# Altium footprint library VL820.PcbLib: 42 footprints (part 1 of 3)
Each footprint in its own frame and in the unit in brackets; x right, y up, seen from the top. Pads: shape width x height; smd on the part's side, far side on the other; paste and mask are expansions set on the pad; w line width, h text height; cw(c..) or ccw(c..) is an arc to the next point about the centre after c.
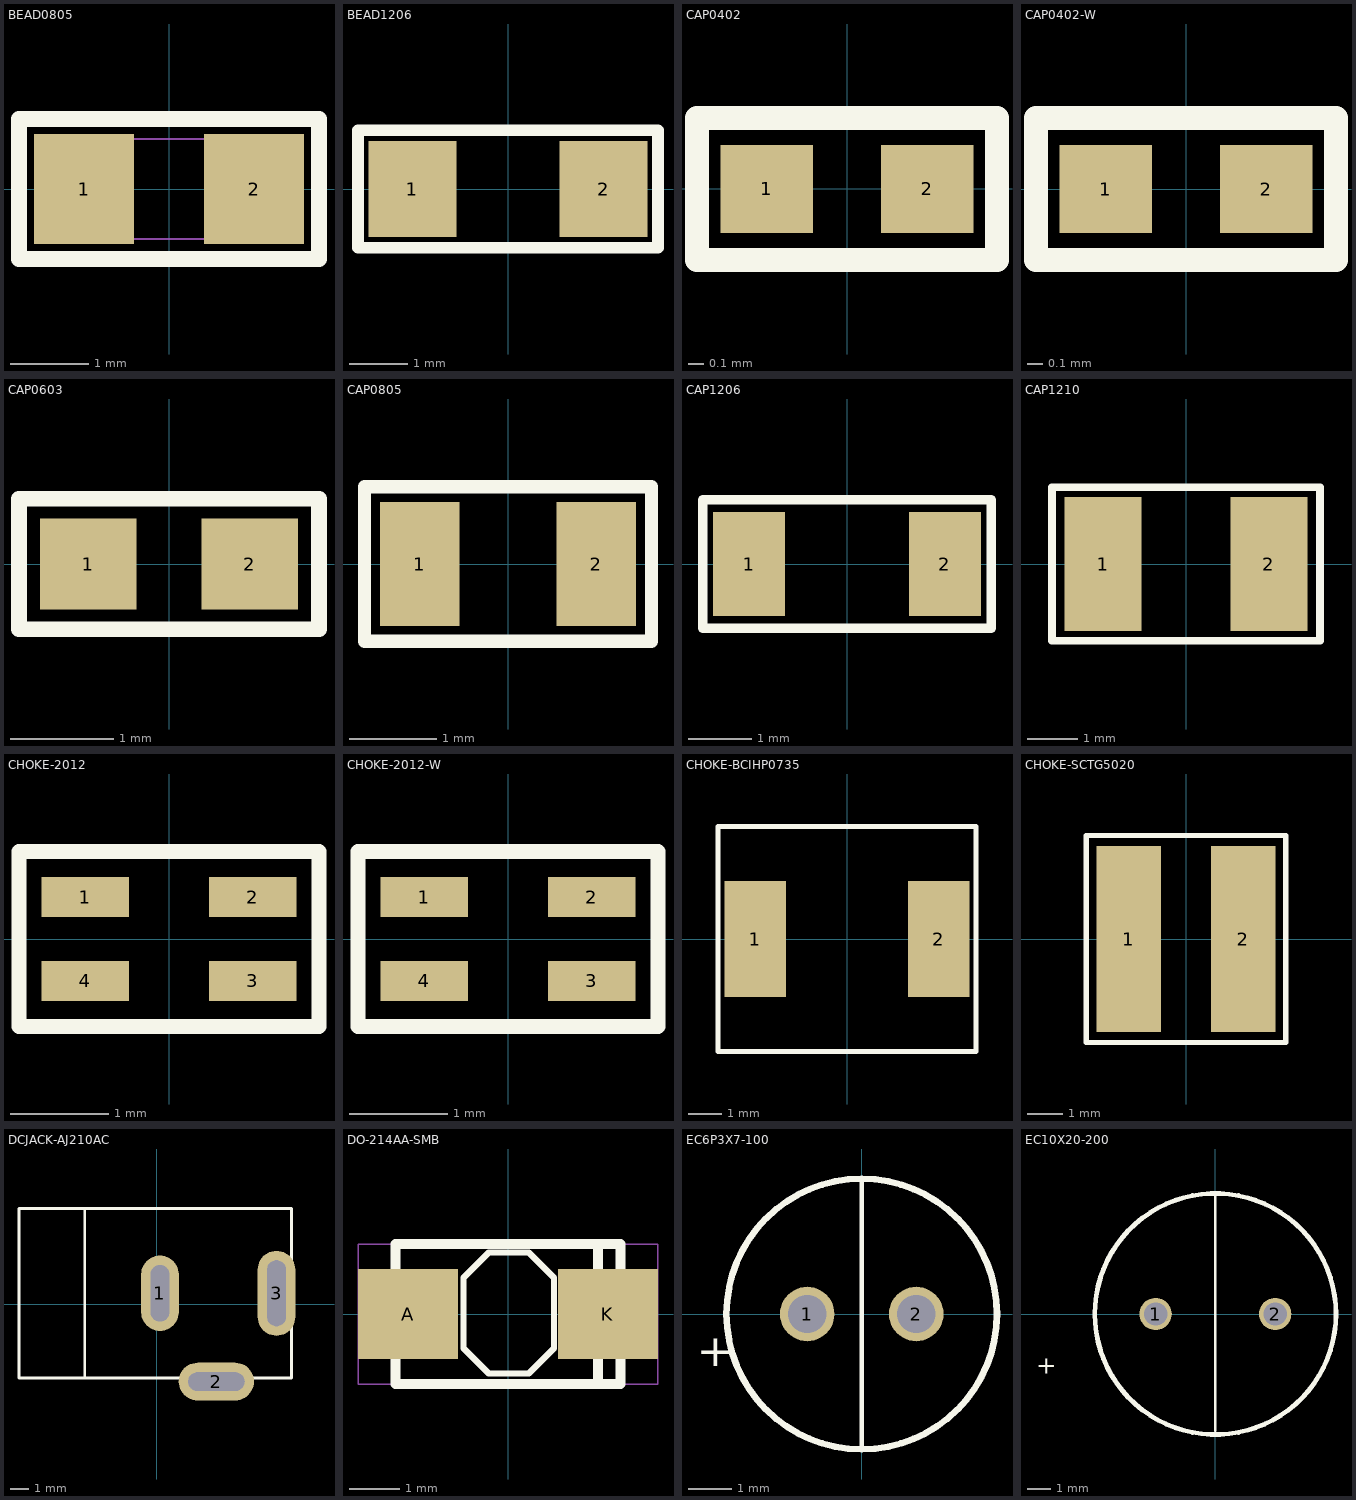
[diagram p0: the footprints below, top view; thin cyan lines are the x and y axes]

## BEAD0805 [mil] "BEAD0805"
pads (2):
  rect 50x55 smd: 1(-42.5,0) 2(42.5,0)
Top Overlay:
  lines w8: -75,-35 -75,35 -35,35 75,35 75,-35 -75,-35
Mechanical 8:
  lines w1: -40,-25 40,-25 40,25 -40,25 -40,-25
Mechanical 14:
  text "1" at -42.5,-4 h10
  text "2" at 42.5,-4 h10
Mechanical 16:
  lines w1: -75,-35 -75,35 75,35 75,-35 -75,-35
3D body "0805 SMD Capacitor.step": height 30.79, standoff 0, extent -39.01,-25.08 39.73,24.14

## BEAD1206 [mil] "BEAD1206"
pads (2):
  rect 60x65 smd: 1(-65,0) 2(65,0)
Top Overlay:
  lines w8: -102,-40 -102,40 -65,40 102,40 102,-40 -102,-40
Mechanical 14:
  text "1" at -65,-4 h10
  text "2" at 65,-4 h10
Mechanical 15:
  lines w1: -100,-40 -100,40 100,40 100,-40 -100,-40
3D body "SOD-80.step": height 59.06, standoff 0, extent -67.89,-29 69.9,30.06

## CAP0402 [mil] "CAP0402"
pads (2):
  rect 23x22 smd: 1(-20,0) 2(20,0)
Top Overlay:
  lines w6: -37.4,-17.72 -37.4,17.71 37.4,17.71 37.4,-17.72 -37.4,-17.72
Mechanical 9:
  text "V" at 8,0 h20
Mechanical 14:
  text "1" at -16,0 h10
  text "2" at 24,0 h10
Mechanical 15:
  lines w1: -37.4,-17.72 -37.4,17.71 37.4,17.71 37.4,-17.72 -37.4,-17.72
3D body "User Library-Chip Cap_MLCC_0402 (1005).step": height 19.68, standoff 0, extent -20.69,-10 18.68,9.68

## CAP0402-W [mil] "CAP0402-W"
pads (2):
  rect 23x22 smd: 1(-20,0) 2(20,0)
Top Overlay:
  lines w6: -37.4,-17.72 -37.4,17.72 37.4,17.72 37.4,-17.72 -37.4,-17.72
Mechanical 14:
  text "1" at -20,-4 h10
  text "2" at 20,-4 h10
Mechanical 15:
  lines w1: -37.4,-17.72 -37.4,17.72 37.4,17.72 37.4,-17.72 -37.4,-17.72
3D body "User Library-Chip Cap_MLCC_0402 (1005).step": height 19.68, standoff 0, extent -20.69,-10 18.68,9.68

## CAP0603 [mil] "CAP0603"
pads (2):
  rect 37x35 smd: 1(-31,0) 2(31,0)
Top Overlay:
  lines w6: -57.5,-25 57.5,-25 57.5,25 -57.5,25 -57.5,-25
Mechanical 14:
  text "2" at 35,0 h10
  text "1" at -27,0 h10
Mechanical 15:
  lines w1: -57.5,-25 -57.5,25 57.5,25 57.5,-25 -57.5,-25
3D body "0603 SMD Capacitor.step": height 11.89, standoff 0, extent -33.5,-15.5 29.5,16

## CAP0805 [mil] "CAP0805"
pads (2):
  rect 36x56 smd: 1(-40,0) 2(40,0)
Top Overlay:
  lines w6: -65,-35 -65,35 -35,35 65,35 65,-35 -65,-35
Mechanical 14:
  text "2" at 40,4 h10
  text "1" at -40,4 h10
Mechanical 15:
  lines w1: -65,-35 -65,35 65,35 65,-35 -65,-35
3D body "0805 SMD Capacitor.step": height 30.79, standoff 0, extent -39.01,-25.08 39.73,24.14

## CAP1206 [mil] "CAP1206"
pads (2):
  rect 45x65 smd: 1(-61,0) 2(61,0)
Top Overlay:
  lines w6: -90,-40 90,-40 90,40 -65,40 -90,40 -90,-40
Mechanical 14:
  text "2" at 65,0 h10
  text "1" at -57,0 h10
Mechanical 15:
  lines w1: -90,-40 90,-40 90,40 -90,40 -90,-40
3D body "User Library-Chip Cap_MLCC_1206 (3216)_C.step": height 37.4, standoff 0, extent -61.49,-31.42 64.49,31.58

## CAP1210 [mil] "CAP1210"
pads (2):
  rect 60x105 smd: 1(-65,0) 2(65,0)
Top Overlay:
  lines w6: -105,-60 -105,60 -85,60 105,60 105,-60 -105,-60
Mechanical 14:
  text "1" at -69,0 h10
  text "2" at 61,0 h10
Mechanical 16:
  lines w1: -105,-60 -105,60 105,60 105,-60 -105,-60
3D body "User Library-SMD Ceramic Capacitors1210.step": height 30.71, standoff 0, extent -64.05,-49.21 62.06,49.22

## CHOKE-2012 [mm] "CHOKE-2012"
pads (4):
  rect 0.889x0.406 smd: 1(-0.85,0.425) 2(0.85,0.425) 3(0.85,-0.425) 4(-0.85,-0.425)
Top Overlay:
  lines w0.152: -1.524,-0.889 -1.524,0.889 1.524,0.889 1.524,-0.889 -1.524,-0.889
Mechanical 14:
  text "2" at 0.922,0.353 h0.25
  text "1" at -0.778,0.353 h0.25
  text "3" at 0.922,-0.497 h0.25
  text "4" at -0.778,-0.497 h0.25
Mechanical 15:
  lines w0.025: -1.524,-0.889 1.524,-0.889 1.524,0.889 -1.524,0.889 -1.524,-0.889
3D body: height 1.3, standoff 0, extent -1.2,-0.675 1.2,0.725

## CHOKE-2012-W [mm] "CHOKE-2012-W"
pads (4):
  rect 0.889x0.406 smd: 1(-0.85,0.425) 2(0.85,0.425) 3(0.85,-0.425) 4(-0.85,-0.425)
Top Overlay:
  lines w0.152: -1.524,-0.889 -1.524,0.889 1.524,0.889 1.524,-0.889 -1.524,-0.889
Mechanical 14:
  text "2" at 0.922,0.497 h0.25
  text "1" at -0.778,0.497 h0.25
  text "3" at 0.922,-0.353 h0.25
  text "4" at -0.778,-0.353 h0.25
Mechanical 15:
  lines w0.025: -1.524,-0.889 1.524,-0.889 1.524,0.889 -1.524,0.889 -1.524,-0.889
3D body: height 1.3, standoff 0, extent -1.2,-0.675 1.2,0.725

## CHOKE-BCIHP0735 [mil] "CHOKE-BCIHP0735"
pads (2):
  rect 73x138 smd: 1(-109.25,0) 2(109.25,0)
Top Overlay:
  lines w6: -153.54,-133.86 153.54,-133.86 153.54,133.86 -153.54,133.86 -153.54,-133.86
Mechanical 14:
  text "1" at -109.25,-4 h10
  text "2" at 109.25,-4 h10
Mechanical 15:
  lines w1: -153.54,-133.86 -153.54,133.86 153.54,133.86 153.54,-133.86 -153.54,-133.86
3D body "User Library-res2512_body.STEP": height 24.44, standoff 0, extent -124.09,-62.26 124.7,63.74

## CHOKE-SCTG5020 [mil] "CHOKE-SCTG5020"
pads (2):
  rect 71x205 smd: 1(-62.99,0) 2(62.99,0)
Top Overlay:
  lines w6: -110.24,-114.17 -110.24,114.17 110.24,114.17 110.24,-114.17 -110.24,-114.17
Mechanical 14:
  text "2" at 58.99,0 h10
  text "1" at -66.99,0 h10
Mechanical 15:
  lines w1: -110.24,-114.17 -110.24,114.17 110.24,114.17 110.24,-114.17 -110.24,-114.17
3D body "User Library-Power Inductor CDRH4D18 4.5x4.5.step": height 78.74, standoff 0, extent -94.49,-89.49 94.49,99.49

## DCJACK-AJ210AC [mil] "DCJACK-AJ210AC"
pads (3):
  oval 79x158 hole 39 slot 118 at 90 deg: 1(6.34,23.18)
  oval 158x79 hole 118 slot 39 at 90 deg: 2(124.45,-161.85)
  oval 79x178 hole 39 slot 138 at 90 deg: 3(250.44,23.18)
Top Overlay:
  lines w6: -151.13,-153.98 -151.13,200.35 ; -288.94,-153.98 281.94,-153.98 281.94,200.35 -288.94,200.35 -288.94,-153.98
Mechanical 14:
  text "3" at 250.44,5.18 h45
  text "2" at 124.45,-179.85 h45
  text "1" at 6.34,5.18 h45
Mechanical 15:
  lines w1: -288.94,-153.98 -288.94,200.35 281.94,200.35 281.94,-153.98 -288.94,-153.98
Mechanical 16:
  lines w6: -13.34,23.18 26.03,23.18 ; 6.34,-35.87 6.34,82.24 ; 65.4,-161.85 183.51,-161.85 ; 124.45,-181.53 124.45,-142.16 ; 230.75,23.18 270.12,23.18 ; 250.44,-45.72 250.44,92.09 ; -13.34,-16.18 ccw(c6.34,-16.18) 26.03,-16.19 26.03,62.55 ccw(c6.34,62.55) -13.34,62.55 -13.34,-16.18 ; 85.08,-181.53 cw(c85.08,-161.85) 85.08,-142.16 163.82,-142.16 cw(c163.82,-161.85) 163.82,-181.53 85.08,-181.53 ; 230.75,-26.02 ccw(c250.44,-26.02) 270.12,-26.02 270.12,72.39 ccw(c250.44,72.39) 230.75,72.39 230.75,-26.02
3D body "User Library-DC-10A.STEP": height 437.01, standoff -133.86, extent -292.86,-165.79 274.07,200.35

## DO-214AA-SMB [mm] "DO-214AA-SMB"
pads (2):
  rect 2x1.8 smd: A(-2,0) K(2,0)
Top Overlay:
  lines w0.127: -0.89,-0.682 -0.382,-1.19 0.412,-1.19 0.92,-0.682 0.92,0.722 0.412,1.23 -0.382,1.23 -0.89,0.722 -0.89,-0.682
  lines w0.202: 1.8,-1.4 1.8,1.4 ; -2.25,-1.4 2.25,-1.4 2.25,1.4 -2.25,1.4 -2.25,-1.4
Mechanical 14:
  text "A" at -2.254,0 h0.64
  text "K" at 1.746,0 h0.64
Mechanical 16:
  lines w0.025: -3,-1.4 3,-1.4 3,1.4 -3,1.4 -3,-1.4
3D body "User Library-DO-214AC(SMA).STEP": height 1.14, standoff -1.14, extent -2.769,-1.321 2.718,1.473

## EC6P3X7-100 [mil] "EC6P3X7-100"
pads (2):
  round 50 hole 35: 1(-50,0) 2(50,0)
Top Overlay:
  circle w6: c0,0 r124
  lines w4: 0,-124 0,124
  text "+" at -151,-48 h30
Mechanical 14:
  text "2" at 50,-4 h10
  text "1" at -50,-4 h10
Mechanical 15:
  circle w1: c0,0 r124
3D body "User Library-CE_R100_D200_H460.step": height 460.63, standoff -133.86, extent -98,-99.97 101.92,99.99

## EC10X20-200 [mil] "EC10X20-200"
pads (2):
  round 54 hole 39: 1(-100,0) 2(100,0)
Top Overlay:
  circle w8: c0,0 r201.6
  lines w4: 0,-195 0,200
  text "+" at -300,-100 h30
Mechanical 14:
  text "1" at -110,0 h25
  text "2" at 90,0 h25
Mechanical 15:
  circle w1: c0,0 r201.6
3D body "User Library-Cap-EL(10x13_5-5)T.STEP": height 559.13, standoff -129.92, extent -198.85,-195.84 194.93,197.85